# EAGLE library part OSC_TMMH-109-01-G-DV-ES-A (library J-Samtec-TMMH-1XX-XX-XX-DV-XXX-XXX)
Samtec connector for SA.22c rubidium oscillator
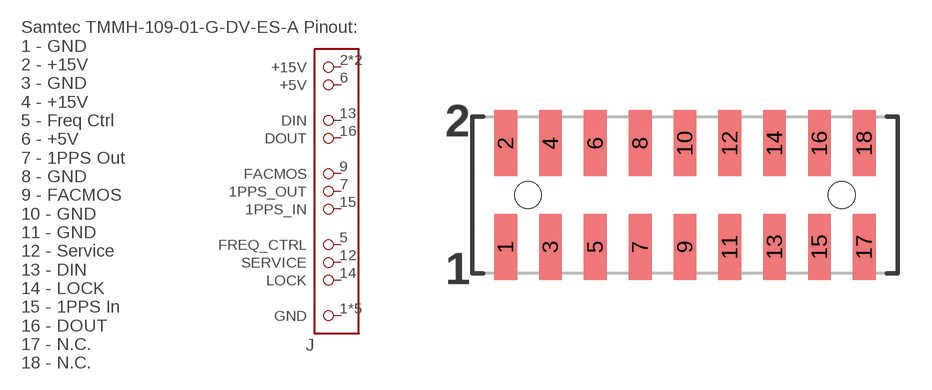
[diagram p0: symbol with the pads of TMMH-109-XX-XX-DV-ES-A; footprint TMMH-109-XX-XX-DV-ES-A]

Designator prefix J

## OSC_TMMH-109-01-G-DV-ES-A  [TMMH-109-XX-XX-DV-ES-A]
1  GND  pas
2  +15V  pas
3  GND  pas
4  +15V  pas
5  FREQ_CTRL  pas
6  +5V  pas
7  1PPS_OUT  pas
8  GND  pas
9  FACMOS  pas
10  GND  pas
11  GND  pas
12  SERVICE  pas
13  DIN  pas
14  LOCK  pas
15  1PPS_IN  pas
16  DOUT  pas

## Footprint TMMH-109-XX-XX-DV-ES-A (pad centres in mm)
2.00 mm SMT Header Source: Samtec TMMH-109-01-G-DV-ES-A <https://www.samtec.com/products/tmmh-109-01-g-dv-es-a>
smd 1.016 x 2.94: 1 -8,-2.315; 2 -8,2.315; 3 -6,-2.315; 4 -6,2.315; 5 -4,-2.315; 6 -4,2.315; 7 -2,-2.315; 8 -2,2.315; 9 0,-2.315; 10 0,2.315; 11 2,-2.315; 12 2,2.315; 13 4,-2.315; 14 4,2.315; 15 6,-2.315; 16 6,2.315; 17 8,-2.315; 18 8,2.315
hole 1.19 at -7,0
hole 1.19 at 7,0